# EAGLE library part MAX13054ASA (library MAX13054ASA)
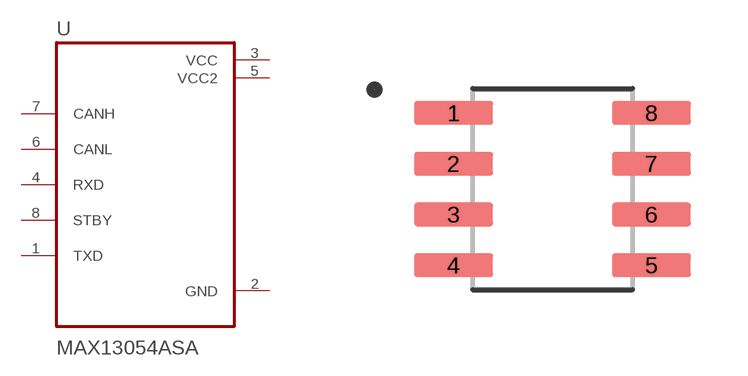
[diagram p0: symbol with the pads of SOIC127P600X175-8N; footprint SOIC127P600X175-8N]

Designator prefix U

## MAX13054ASA (Description: 1/1 Transceiver Full CANbus 8-SOIC; Digi-Key_Part_Number: MAX13054ASA+TTR-ND; Digi-Key_Purchase_URL: https://www.digikey.com/product-detail/en/maxim-integrated/MAX13054ASA-T/MAX13054ASA-TTR-ND/1475460?utm_source=snapeda&utm_medium=aggregator&utm_campaign=symbol; MF: Maxim Integrated; MP: MAX13054ASA+; Package: SOIC-8 Maxim)  [SOIC127P600X175-8N]
1  TXD
2  GND  pwr
3  VCC  pwr
4  RXD
5  VCC2  pwr
6  CANL
7  CANH
8  STBY

## Footprint SOIC127P600X175-8N (pad centres in mm)
smd 1.97 x 0.59: 1 -2.475,1.905; 2 -2.475,0.635; 3 -2.475,-0.635; 4 -2.475,-1.905; 5 2.475,-1.905; 6 2.475,-0.635; 7 2.475,0.635; 8 2.475,1.905